# Altium schematic symbol library ESP8266_SHIELD_1.SchLib: 1 symbol
Pins are listed as number, name and electrical type; pins without a type are passive.

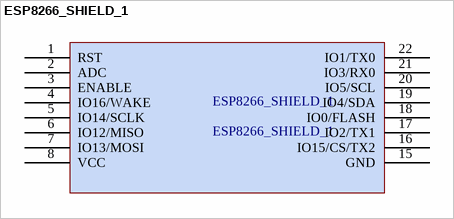
[diagram p0: symbol ESP8266_SHIELD_1]

## ESP8266_SHIELD_1
designator ESP8266_SHIELD_1
footprint ESP8266_SHIELD_1
pins: 1 RST, 2 ADC, 3 ENABLE, 4 IO16/WAKE, 5 IO14/SCLK, 6 IO12/MISO, 7 IO13/MOSI, 8 VCC, 15 GND, 16 IO15/CS/TX2, 17 IO2/TX1, 18 IO0/FLASH, 19 IO4/SDA, 20 IO5/SCL, 21 IO3/RX0, 22 IO1/TX0